# Altium schematic symbol library Crystals.SchLib: 5 symbols
Pins are listed as number, name and electrical type; pins without a type are passive.

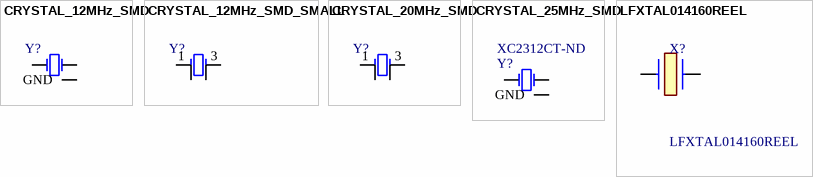
[diagram p0: symbols CRYSTAL_12MHz_SMD to LFXTAL014160REEL]

## CRYSTAL_12MHz_SMD
designator Y?, comment CRYSTAL 12.0000MHZ 18PF SMD  (value not drawn)
12 MHz ±20ppm Crystal 18pF (6x3.5mm); Made By: Robert Pafford; Frequency: 12 MHz; ESR: 50 Ohmz; Load Capacitance: 18pF; Supplier 1: Digi-Key; Supplier Part Number 1: XC3080CT-ND
footprint 4-SMD No Lead Crystal; pin to pad 2>3 GND>2+4
pins: 1, 2, GND (power)

## CRYSTAL_12MHz_SMD_SMALL
designator Y?, comment CRYSTAL 12.0000MHZ 18PF SMD  (value not drawn)
12 MHz ±20ppm Crystal 18pF 100 Ohms 4-SMD, No Lead (3.2x2.5mm); Made By: Robert Pafford; Frequency: 12 MHz; Load Capacitance: 18pF; ESR: 100 Ohms; Supplier 1: Digi-Key; Supplier Part Number 1: 2151-RH100-12.000-18-2030-EXT-TRCT-ND
footprint 4-SMD, NO LEAD CRYSTAL 3.2x2.5mm
pins: 1, 2 GND1 (power), 3, 4 GND1 (power)

## CRYSTAL_20MHz_SMD
designator Y?, comment CRYSTAL 20.0000MHZ 18PF SMD  (value not drawn)
20 MHz ±20ppm Crystal 18pF 100 Ohms 4-SMD, No Lead (3.2x2.5mm); Made By: Robert Pafford; Frequency: 20 MHz; ESR: 70 Ohms; Load Capacitance: 18pF; Supplier 1: Digikey; Supplier Part Number 1: 2151-RH100-20.000-18-2020-TRCT-ND
footprint 4-SMD, NO LEAD CRYSTAL 3.2x2.5mm
pins: 1, 2 GND1 (power), 3, 4 GND1 (power)

## CRYSTAL_25MHz_SMD
designator Y?, comment Supplier Part Number 1: XC2312CT-ND  (hidden comment: CRYSTAL 25.0000MHZ 18PF SMD)
25 MHz ±20ppm Crystal 18pF 50 Ohms 4-SMD, No Lead; Made By: Siddharth Venkatesan; Frequency: 25 MHz; ESR: 40 Ohms; Load Capacitance: 18pF; Supplier 1: Digi-Key
footprint 4-SMD No Lead Crystal; pin to pad 2>3 GND>2+4
pins: 1, 2, GND (power)

## LFXTAL014160REEL
designator X?
Industry standard low cost SMD crystal package Low profile versions available SMD version of model HC49/4H; Manufacturer_Name: IQD; Geometry.Height: 4.3mm; Made By: Tejas Gulur; Mouser Part Number: *; Mouser Price/Stock: *; Manufacturer_Part_Number: LFXTAL014160REEL; Datasheet Link: https://www.iqdfrequencyproducts.com/products/details/hc49-4hsmx.pdf; Supplier 1: Mouser; Supplier Part Number 1: 449-LFXTAL014160REEL
footprint LFXTAL014160REEL
pins: 1, 2